# EAGLE library part TLP250V1 (library TLP250)
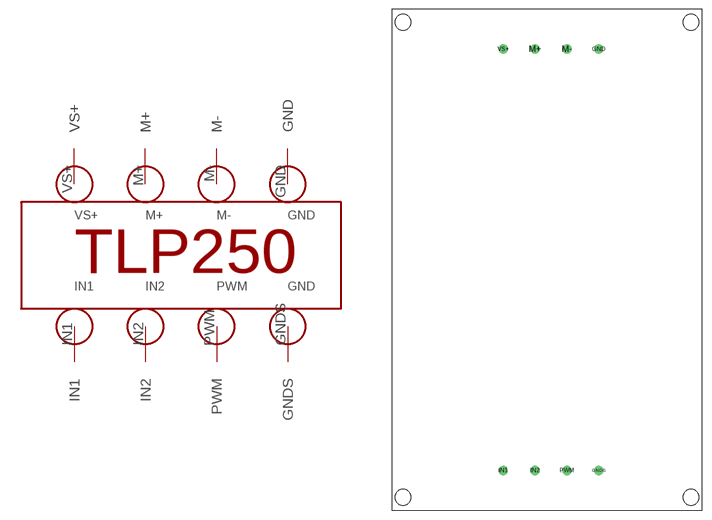
[diagram p0: symbol with the pads of TLP250; footprint TLP250]

Designator prefix -

## TLP250V1  [TLP250]
GND  GND  in
GNDS  GNDS  in
IN1  IN1  in
IN2  IN2  in
M+  M+  out
M-  M-  out
PWM  PWM  in
VS+  VS+  in

## Footprint TLP250 (pad centres in mm)
drill 1: GND 10.16,33.02; GNDS 10.16,-34.29; IN1 -5.08,-34.29; IN2 0,-34.29; M+ 0,33.02; M- 5.08,33.02; PWM 5.08,-34.29; VS+ -5.08,33.02